# EAGLE library part BD6231F_DIP_1 (library MD)
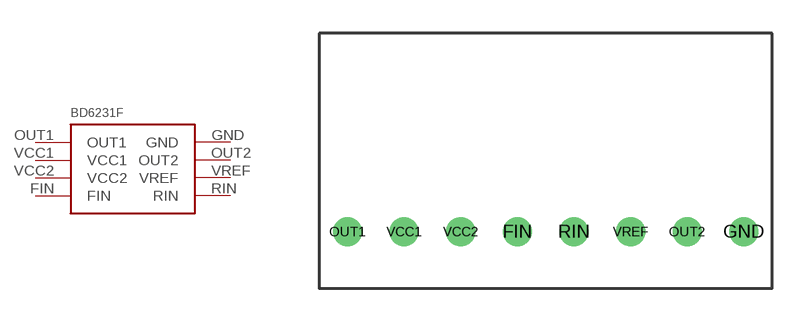
[diagram p0: symbol with the pads of BD6231F_DIP_1; footprint BD6231F_DIP_1]

Designator prefix MD

## BD6231F_DIP_1  [BD6231F_DIP_1]
FIN  FIN
GND  GND
OUT1  OUT1
OUT2  OUT2
RIN  RIN
VCC1  VCC1
VCC2  VCC2
VREF  VREF

## Footprint BD6231F_DIP_1 (pad centres in mm)
drill 0.8: FIN -1.27,0; GND 8.89,0; OUT1 -8.89,0; OUT2 6.35,0; RIN 1.27,0; VCC1 -6.35,0; VCC2 -3.81,0; VREF 3.81,0